# Altium schematic symbol library Schlib1.SchLib: 1 symbol
Pins are listed as number, name and electrical type; pins without a type are passive.

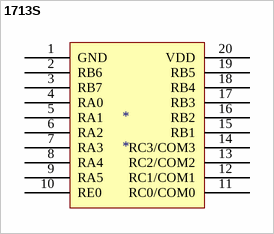
[diagram p0: symbol 1713S]

## 1713S
designator *
pins: 1 GND, 2 RB6, 3 RB7, 4 RA0, 5 RA1, 6 RA2, 7 RA3, 8 RA4, 9 RA5, 10 RE0, 11 RC0/COM0, 12 RC1/COM1, 13 RC2/COM2, 14 RC3/COM3, 15 RB1, 16 RB2, 17 RB3, 18 RB4, 19 RB5, 20 VDD